# Altium footprint library SHEET23.PcbLib: 47 footprints (part 2 of 3)
Each footprint in its own frame and in the unit in brackets; x right, y up, seen from the top. Pads: shape width x height; smd on the part's side, far side on the other; paste and mask are expansions set on the pad; w line width, h text height; cw(c..) or ccw(c..) is an arc to the next point about the centre after c.
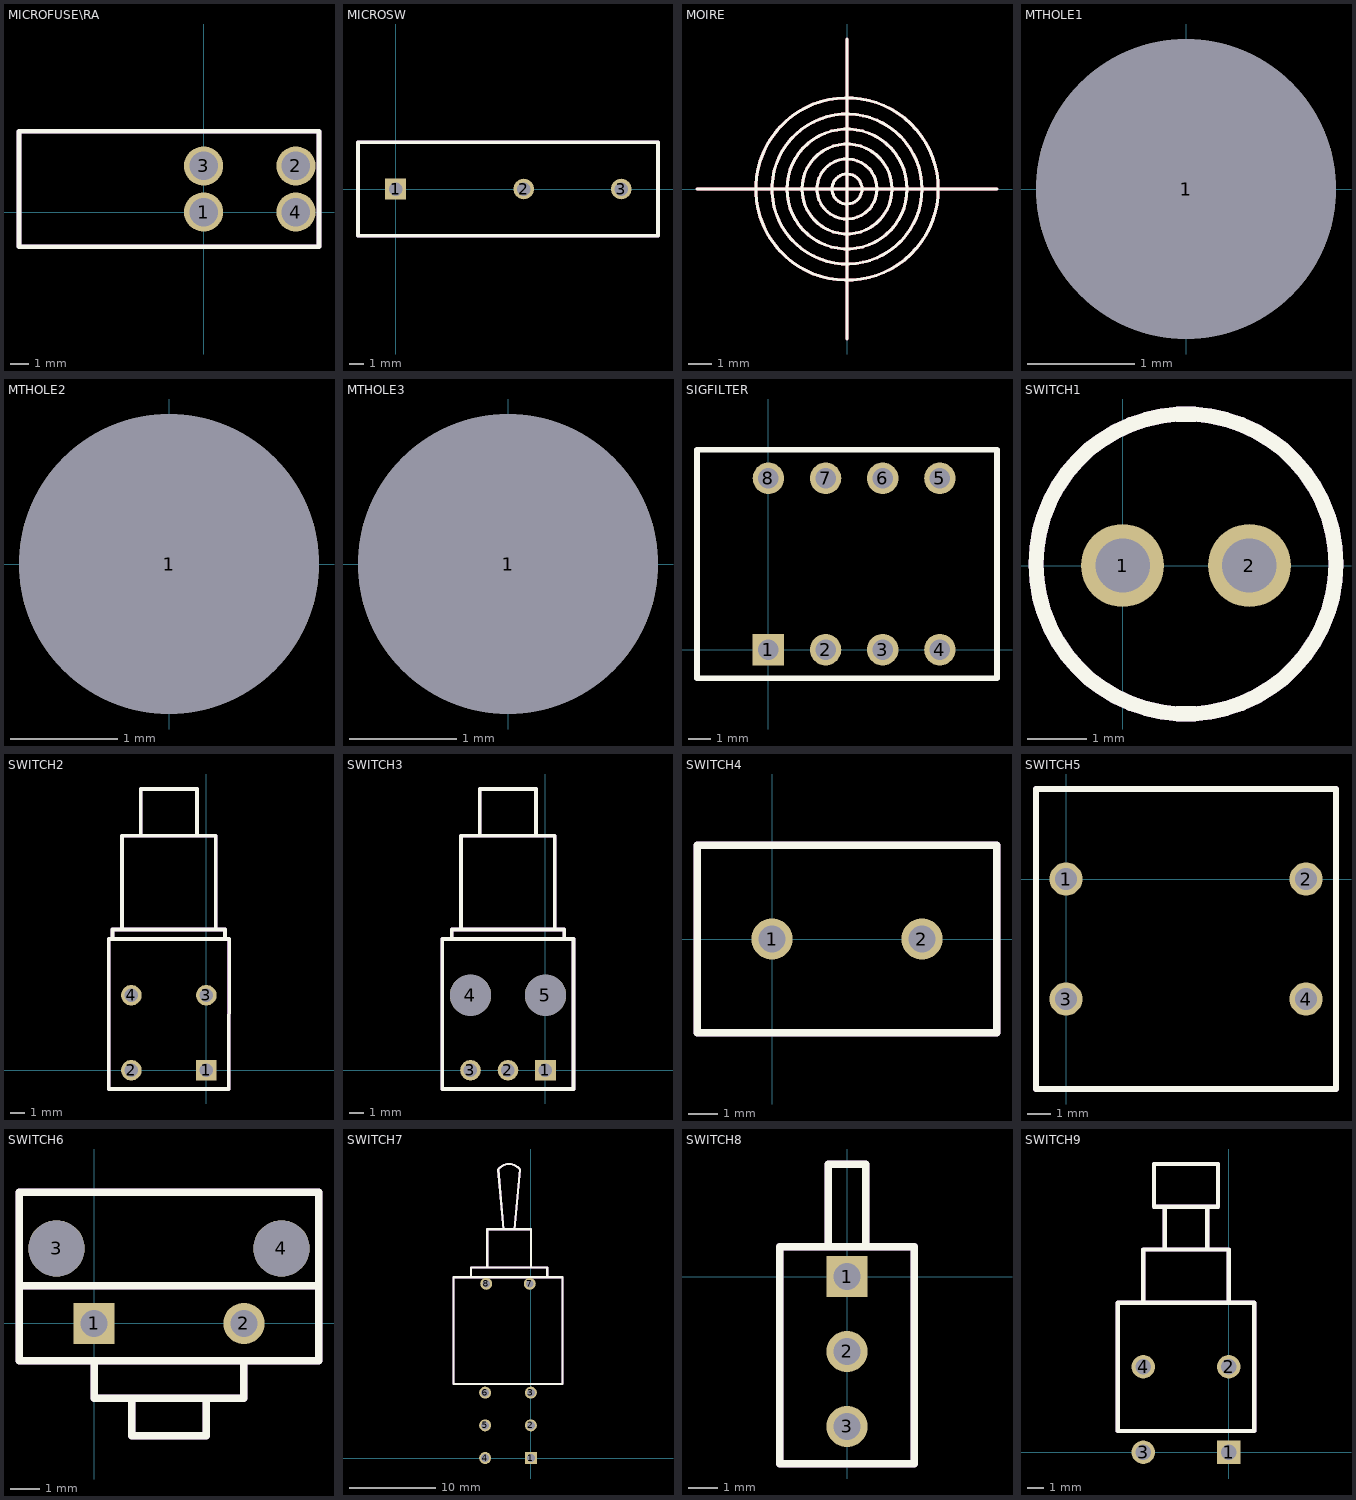
[diagram p1: the footprints below, top view; thin cyan lines are the x and y axes]

## MICROFUSE\RA [mil]
pads (4):
  round 85 hole 62: 1(0,0) 2(200,100) 3(0,100) 4(200,0)
Top Overlay:
  lines w10: -400,-75 -400,175 250,175 250,-75 -400,-75
  text ".Designator" at -100,75 h60
Mechanical 1:
  lines w10: -400,-75 -400,175 250,175 250,-75 -400,-75
  text ".Designator" at -100,75 h60
  text ".Pattern" at -375,-200 h60

## MICROSW [mil]
pads (3):
  rect 55x55 / inner round 55 / far side round 55 hole 36: 1(0,0)
  round 55 hole 36: 2(342,0) 3(602,0)
Top Overlay:
  lines w10: -100,-125 -100,125 700,125 700,-125 -100,-125
  text ".Designator" at -50,150 h60
Mechanical 1:
  lines w10: -100,-125 700,-125 700,125 -100,125 -100,-125
  text ".Designator" at -50,25 h60
  text ".Pattern" at 0,-250 h60

## MOIRE [mil]
pads (1):
  round 0 all layers, no hole: 1(0,0)
Top Layer:
  circle w5: c0,0 r125
  circle w5: c0,0 r50
  circle w5: c0,0 r152.07
  circle w5: c0,0 r125
  circle w5: c0,0 r25
  circle w5: c0,0 r100
  circle w5: c0,0 r50
  circle w5: c0,0 r152.07
  circle w5: c0,0 r100
  circle w5: c0,0 r25
  circle w5: c0,0 r75
  circle w5: c0,0 r75
  lines w5: -250,0 250,0 -250,0 ; 0,-250 0,250 0,-250
Mid-Layer 1:
  circle w5: c0,0 r100
  circle w5: c0,0 r75
  circle w5: c0,0 r50
  circle w5: c0,0 r25
  circle w5: c0,0 r125
  circle w5: c0,0 r152.07
  circle w5: c0,0 r50
  circle w5: c0,0 r75
  circle w5: c0,0 r125
  circle w5: c0,0 r100
  circle w5: c0,0 r152.07
  circle w5: c0,0 r25
  lines w5: -250,0 250,0 -250,0 ; 0,-250 0,250 0,-250
Bottom Layer:
  circle w5: c0,0 r100
  circle w5: c0,0 r75
  circle w5: c0,0 r125
  circle w5: c0,0 r152.07
  circle w5: c0,0 r125
  circle w5: c0,0 r50
  circle w5: c0,0 r50
  circle w5: c0,0 r75
  circle w5: c0,0 r25
  circle w5: c0,0 r25
  circle w5: c0,0 r152.07
  circle w5: c0,0 r100
  lines w5: -250,0 250,0 -250,0 ; 0,-250 0,250 0,-250
Top Overlay:
  circle w5: c0,0 r75
  circle w5: c0,0 r152.07
  circle w5: c0,0 r100
  circle w5: c0,0 r125
  circle w5: c0,0 r50
  circle w5: c0,0 r50
  circle w5: c0,0 r25
  circle w5: c0,0 r25
  circle w5: c0,0 r100
  circle w5: c0,0 r125
  circle w5: c0,0 r75
  circle w5: c0,0 r152.07
  lines w5: -250,0 250,0 -250,0 ; 0,-250 0,250 0,-250
  text ".Designator" at 125,375 h60
Bottom Overlay:
  circle w5: c0,0 r152.07
  circle w5: c0,0 r25
  circle w5: c0,0 r25
  circle w5: c0,0 r50
  circle w5: c0,0 r100
  circle w5: c0,0 r75
  circle w5: c0,0 r50
  circle w5: c0,0 r75
  circle w5: c0,0 r125
  circle w5: c0,0 r100
  circle w5: c0,0 r152.07
  circle w5: c0,0 r125
  lines w5: -250,0 250,0 -250,0 ; 0,-250 0,250 0,-250
Top Paste:
  circle w5: c0,0 r152.07
  circle w5: c0,0 r75
  circle w5: c0,0 r125
  circle w5: c0,0 r100
  circle w5: c0,0 r50
  circle w5: c0,0 r25
  circle w5: c0,0 r50
  circle w5: c0,0 r75
  circle w5: c0,0 r25
  circle w5: c0,0 r125
  circle w5: c0,0 r100
  circle w5: c0,0 r152.07
  lines w5: -250,0 250,0 -250,0 ; 0,-250 0,250 0,-250
Bottom Paste:
  circle w5: c0,0 r100
  circle w5: c0,0 r75
  circle w5: c0,0 r100
  circle w5: c0,0 r50
  circle w5: c0,0 r75
  circle w5: c0,0 r125
  circle w5: c0,0 r152.07
  circle w5: c0,0 r125
  circle w5: c0,0 r25
  circle w5: c0,0 r25
  circle w5: c0,0 r50
  circle w5: c0,0 r152.07
  lines w5: -250,0 250,0 -250,0 ; 0,-250 0,250 0,-250
Top Solder:
  circle w5: c0,0 r125
  circle w5: c0,0 r152.07
  circle w5: c0,0 r100
  circle w5: c0,0 r50
  circle w5: c0,0 r50
  circle w5: c0,0 r25
  circle w5: c0,0 r100
  circle w5: c0,0 r25
  circle w5: c0,0 r75
  circle w5: c0,0 r152.07
  circle w5: c0,0 r125
  circle w5: c0,0 r75
  lines w5: -250,0 250,0 -250,0 ; 0,-250 0,250 0,-250
Bottom Solder:
  circle w5: c0,0 r75
  circle w5: c0,0 r50
  circle w5: c0,0 r100
  circle w5: c0,0 r125
  circle w5: c0,0 r152.07
  circle w5: c0,0 r75
  circle w5: c0,0 r50
  circle w5: c0,0 r25
  circle w5: c0,0 r25
  circle w5: c0,0 r152.07
  circle w5: c0,0 r100
  circle w5: c0,0 r125
  lines w5: -250,0 250,0 -250,0 ; 0,-250 0,250 0,-250
Internal Plane 1:
  circle w5: c0,0 r100
  circle w5: c0,0 r25
  circle w5: c0,0 r152.07
  circle w5: c0,0 r75
  circle w5: c0,0 r100
  circle w5: c0,0 r75
  circle w5: c0,0 r25
  circle w5: c0,0 r50
  circle w5: c0,0 r125
  circle w5: c0,0 r50
  circle w5: c0,0 r152.07
  circle w5: c0,0 r125
  lines w5: -250,0 250,0 -250,0 ; 0,-250 0,250 0,-250
Drill Guide:
  text ".Pattern" at -100,275 h60
Mechanical 1:
  text ".Designator" at 150,150 h60

## MTHOLE1 [mil]
pads (1):
  round 110 / inner round 100 / far side round 100 hole 110: 1(0,0)
Top Overlay:
  text ".Designator" at 0,550 h60
Mechanical 1:
  text ".Designator" at 0,450 h60
  text ".Pattern" at -125,-250 h60

## MTHOLE2 [mil]
pads (1):
  round 110 / inner round 100 / far side round 100 hole 110: 1(0,0)
Top Overlay:
  text ".Designator" at 0,100 h60
Mechanical 1:
  text ".Pattern" at -125,-200 h60
  text ".Designator" at 0,100 h60

## MTHOLE3 [mil]
pads (1):
  round 110 / inner round 100 / far side round 100 hole 110: 1(0,0)
Top Overlay:
  text ".Designator" at 100,500 h60
Mechanical 1:
  text ".Designator" at 125,250 h60
  text ".Pattern" at -175,-200 h60

## SIGFILTER [mil]
pads (8):
  rect 55x55 / inner round 55 / far side round 55 hole 36: 1(0,0)
  round 55 hole 36: 2(100,0) 3(200,0) 4(300,0) 5(300,300) 6(200,300) 7(100,300) 8(0,300)
Top Overlay:
  lines w10: -125,-50 400,-50 400,350 -125,350 -125,-50
  text ".Designator" at -175,175 h60
Mechanical 1:
  text ".Designator" at -175,175 h60
  text ".Pattern" at 0,-200 h60

## SWITCH1 [mil]
pads (2):
  round 55 hole 36: 1(0,0) 2(84,0)
Top Overlay:
  circle w10: c42,1 r99.32
  text ".Designator" at -375,200 h60
Mechanical 1:
  circle w10: c42,1 r99.32
  text ".Designator" at -375,75 h60
  text ".Pattern" at -50,-200 h60

## SWITCH2 [mil]
pads (4):
  rect 55x55 / inner round 55 / far side round 55 hole 36: 1(0,0)
  round 55 hole 36: 2(-200,0) 3(0,200) 4(-200,200)
Top Overlay:
  lines w10: -250,350 -250,375 50,375 50,350 ; -225,375 -225,625 25,625 25,375 ; -175,625 -175,750 -25,750 -25,625 ; -260,-50 -260,350 61,350 60,-50 -260,-50
  text ".Designator" at 0,150 h60
Mechanical 1:
  lines w10: -250,350 -250,375 50,375 50,350 ; -225,375 -225,625 25,625 25,375 ; -175,625 -175,750 -25,750 -25,625 ; -260,-50 60,-50 60,350 -260,350 -260,-50
  text ".Designator" at 0,150 h60
  text ".Pattern" at -300,-175 h60

## SWITCH3 [mil]
pads (5):
  rect 55x55 / inner round 55 / far side round 55 hole 36: 1(0,0)
  round 55 hole 36: 2(-100,0) 3(-200,0)
  round 110 / inner round 100 / far side round 100 hole 110: 4(-200,200) 5(0,200)
Top Overlay:
  lines w10: -250,350 -250,375 50,375 50,350 ; -225,375 -225,625 25,625 25,375 ; -175,625 -175,750 -25,750 -25,625 ; -275,-50 -275,350 75,350 75,-50 -275,-50
Mechanical 1:
  lines w10: -250,350 -250,375 50,375 50,350 ; -225,375 -225,625 25,625 25,375 ; -175,625 -175,750 -25,750 -25,625 ; -275,-50 75,-50 75,350 -275,350 -275,-50
  text ".Pattern" at -275,-175 h60

## SWITCH4 [mil]
pads (2):
  round 55 hole 36: 1(0,0) 2(200,0)
Top Overlay:
  lines w10: -100,-125 -100,125 300,125 300,-125 -100,-125
  text ".Designator" at -125,100 h60
Mechanical 1:
  lines w10: -100,-125 -100,125 300,125 300,-125 -100,-125
  text ".Designator" at -125,100 h60
  text ".Pattern" at 0,-250 h60

## SWITCH5 [mil]
pads (4):
  round 55 hole 36: 1(0,0) 2(400,0) 3(0,-200) 4(400,-200)
Top Overlay:
  lines w10: -50,-350 -50,150 450,150 450,-350 -50,-350
  text ".Designator" at -125,100 h60
Mechanical 1:
  lines w10: -50,-350 450,-350 450,150 -50,150 -50,-350
  text ".Designator" at -125,100 h60
  text ".Pattern" at 0,-475 h60

## SWITCH6 [mil]
pads (4):
  rect 55x55 / inner round 55 / far side round 55 hole 36: 1(0,0)
  round 55 hole 36: 2(200,0)
  round 75 hole 75: 3(-50,100) 4(250,100)
Top Overlay:
  lines w10: 0,-50 0,-100 200,-100 200,-50 ; 50,-100 50,-150 150,-150 150,-100 ; -100,50 -100,-50 300,-50 300,50 ; -100,50 -100,175 300,175 300,50 ; -100,50 300,50
  text ".Designator" at -175,75 h60
Mechanical 1:
  lines w10: 0,-50 0,-100 200,-100 200,-50 ; 50,-100 50,-150 150,-150 150,-100 ; -100,50 -100,-50 300,-50 300,50 ; -100,50 -100,175 300,175 300,50 ; -100,50 300,50
  text ".Designator" at -175,75 h60
  text ".Pattern" at -100,-275 h60

## SWITCH7 [mil]
pads (8):
  rect 55x55 / inner round 55 / far side round 55 hole 36: 1(0,0)
  round 55 hole 36: 2(0,150) 3(0,300) 4(-210,0) 5(-210,150) 6(-210,300) 7(-5,800) 8(-205,800)
Top Overlay:
  lines w10: -275,830 -275,875 75,875 75,835 ; -200,875 -200,1050 0,1050 0,875 ; -125,1050 -150,1325 cw(c-100,1287.5) -50,1325 -75,1050 ; -355,340 145,340 145,830 -355,830 -355,340
  text ".Designator" at 0,375 h60
Mechanical 1:
  lines w10: -275,830 -275,875 75,875 75,835 ; -200,875 -200,1050 0,1050 0,875 ; -125,1050 -150,1325 cw(c-100,1287.5) -50,1325 -75,1050 ; -355,340 -355,830 145,830 145,340 -355,340
  text ".Pattern" at -300,-200 h60
  text ".Designator" at -25,125 h60

## SWITCH8 [mil]
pads (3):
  rect 55x55 / inner round 55 / far side round 55 hole 36: 1(0,0)
  round 55 hole 36: 2(0,-100) 3(0,-200)
Top Overlay:
  lines w10: -25,40 -25,150 25,150 25,40 ; -90,-250 90,-250 90,40 -90,40 -90,-250
  text ".Designator" at -100,125 h60
Mechanical 1:
  lines w10: -25,40 -25,150 25,150 25,40 ; -90,-250 -90,40 90,40 90,-250 -90,-250
  text ".Designator" at -100,125 h60
  text ".Pattern" at -175,-375 h60

## SWITCH9 [mil]
pads (4):
  rect 55x55 / inner round 55 / far side round 55 hole 36: 1(0,0)
  round 55 hole 36: 2(0,200) 3(-200,0) 4(-200,200)
Top Overlay:
  lines w10: -200,350 -200,475 0,475 0,350 ; -150,475 -150,575 ; -50,475 -50,575 ; -260,50 60,50 60,350 -260,350 -260,50 ; -175,575 -25,575 -25,675 -175,675 -175,575
  text ".Designator" at -50,75 h60
Mechanical 1:
  lines w10: -200,350 -200,475 0,475 0,350 ; -150,475 -150,575 ; -50,475 -50,575 ; -260,50 60,50 60,350 -260,350 -260,50 ; -175,575 -175,675 -25,675 -25,575 -175,575
  text ".Designator" at -50,75 h60
  text ".Pattern" at -275,-200 h60